# Altium schematic symbol library ZhuhcADLib.SchLib: 16 symbols
Pins are listed as number, name and electrical type; pins without a type are passive.

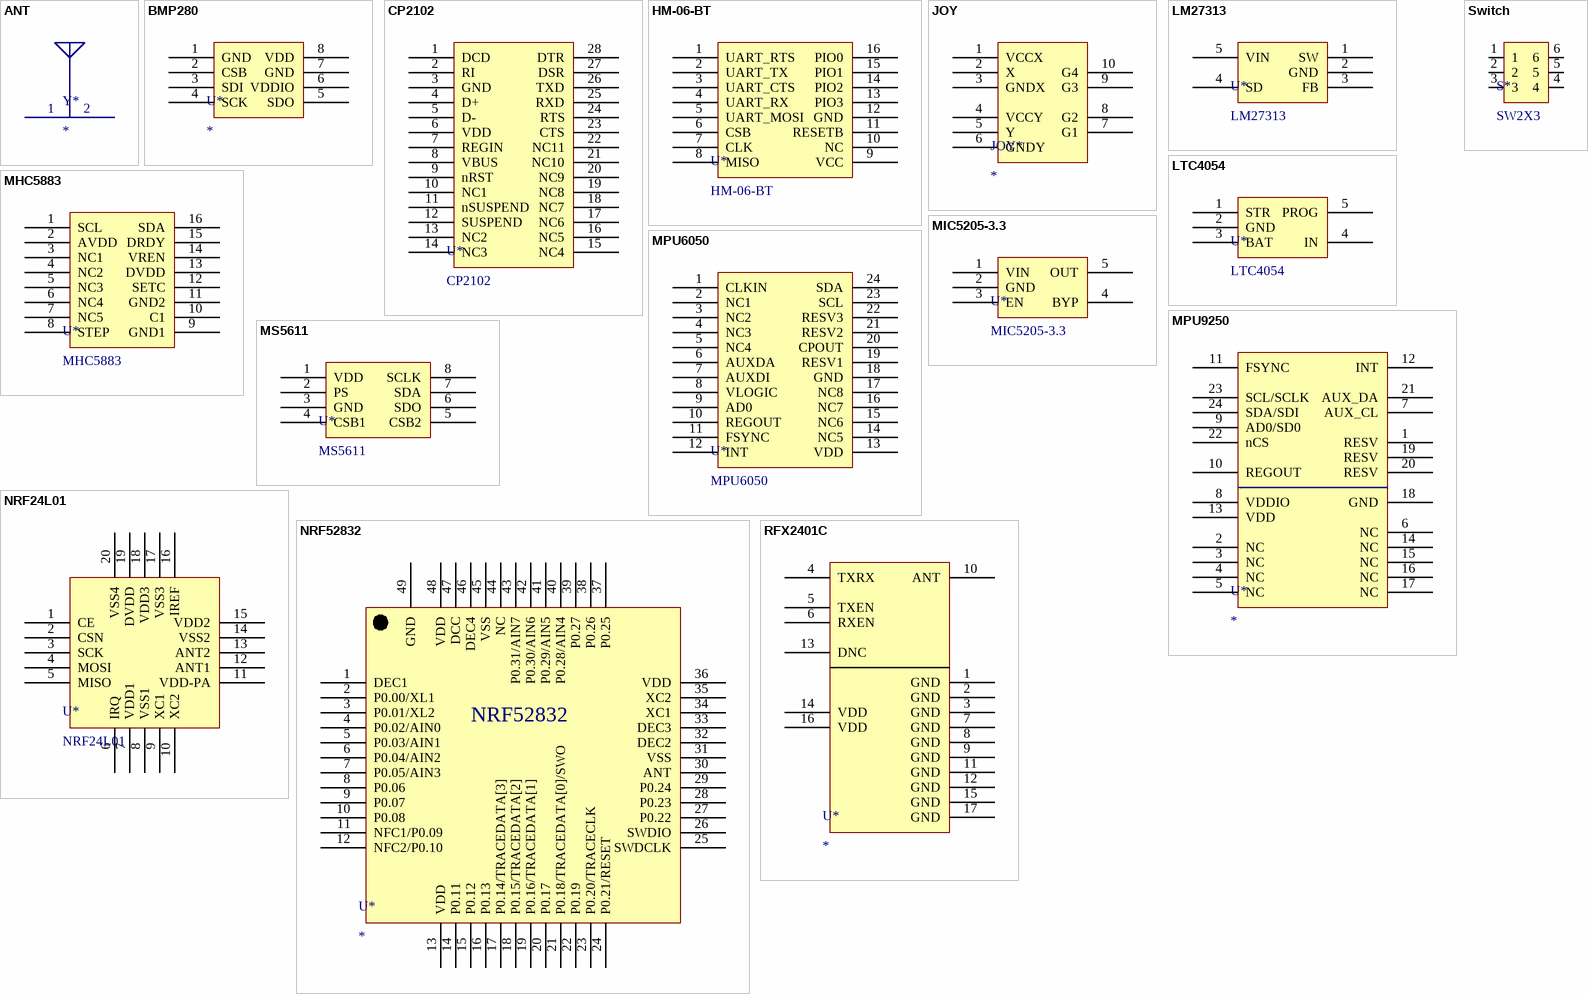
[diagram p0: symbols ANT to Switch]

## ANT
designator Y*
pins: 1, 2

## BMP280
designator U*
pins: 1 GND, 2 CSB, 3 SDI, 4 SCK, 5 SDO, 6 VDDIO, 7 GND, 8 VDD

## CP2102
designator U*
pins: 1 DCD, 2 RI, 3 GND, 4 D+, 5 D-, 6 VDD, 7 REGIN, 8 VBUS, 9 nRST, 10 NC1, 11 nSUSPEND, 12 SUSPEND, 13 NC2, 14 NC3, 15 NC4, 16 NC5, 17 NC6, 18 NC7, 19 NC8, 20 NC9, 21 NC10, 22 NC11, 23 CTS, 24 RTS, 25 RXD, 26 TXD, 27 DSR, 28 DTR

## HM-06-BT
designator U*
pins: 1 UART_RTS, 2 UART_TX, 3 UART_CTS, 4 UART_RX, 5 UART_MOSI, 6 CSB, 7 CLK, 8 MISO, 9 VCC, 10 NC, 11 RESETB, 12 GND, 13 PIO3, 14 PIO2, 15 PIO1, 16 PIO0

## JOY
designator JOY*
pins: 1 VCCX, 2 X, 3 GNDX, 4 VCCY, 5 Y, 6 GNDY, 7 G1, 8 G2, 9 G3, 10 G4

## LM27313
designator U*
pins: 1 SW, 2 GND, 3 FB, 4 SD, 5 VIN

## LTC4054
designator U*
pins: 1 STR, 2 GND, 3 BAT, 4 IN, 5 PROG

## MHC5883
designator U*
pins: 1 SCL, 2 AVDD, 3 NC1, 4 NC2, 5 NC3, 6 NC4, 7 NC5, 8 STEP, 9 GND1, 10 C1, 11 GND2, 12 SETC, 13 DVDD, 14 VREN, 15 DRDY, 16 SDA

## MIC5205-3.3
designator U*
pins: 1 VIN, 2 GND, 3 EN, 4 BYP, 5 OUT

## MPU6050
designator U*
pins: 1 CLKIN, 2 NC1, 3 NC2, 4 NC3, 5 NC4, 6 AUXDA, 7 AUXDI, 8 VLOGIC, 9 AD0, 10 REGOUT, 11 FSYNC, 12 INT, 13 VDD, 14 NC5, 15 NC6, 16 NC7, 17 NC8, 18 GND, 19 RESV1, 20 CPOUT, 21 RESV2, 22 RESV3, 23 SCL, 24 SDA

## MPU9250
designator U*
pins: 1 RESV, 2 NC, 3 NC, 4 NC, 5 NC, 6 NC, 7 AUX_CL, 8 VDDIO, 9 AD0/SD0, 10 REGOUT, 11 FSYNC, 12 INT, 13 VDD, 14 NC, 15 NC, 16 NC, 17 NC, 18 GND, 19 RESV, 20 RESV, 21 AUX_DA, 22 nCS, 23 SCL/SCLK, 24 SDA/SDI

## MS5611
designator U*
pins: 1 VDD, 2 PS, 3 GND, 4 CSB1, 5 CSB2, 6 SDO, 7 SDA, 8 SCLK

## NRF24L01
designator U*
pins: 1 CE, 2 CSN, 3 SCK, 4 MOSI, 5 MISO, 6 IRQ, 7 VDD1, 8 VSS1, 9 XC1, 10 XC2, 11 VDD-PA, 12 ANT1, 13 ANT2, 14 VSS2, 15 VDD2, 16 IREF, 17 VSS3, 18 VDD3, 19 DVDD, 20 VSS4

## NRF52832
designator U*
pins: 1 DEC1, 2 P0.00/XL1, 3 P0.01/XL2, 4 P0.02/AIN0, 5 P0.03/AIN1, 6 P0.04/AIN2, 7 P0.05/AIN3, 8 P0.06, 9 P0.07, 10 P0.08, 11 NFC1/P0.09, 12 NFC2/P0.10, 13 VDD, 14 P0.11, 15 P0.12, 16 P0.13, 17 P0.14/TRACEDATA[3], 18 P0.15/TRACEDATA[2], 19 P0.16/TRACEDATA[1], 20 P0.17, 21 P0.18/TRACEDATA[0]/SWO, 22 P0.19, 23 P0.20/TRACECLK, 24 P0.21/RESET, 25 SWDCLK, 26 SWDIO, 27 P0.22, 28 P0.23, 29 P0.24, 30 ANT, 31 VSS, 32 DEC2, 33 DEC3, 34 XC1, 35 XC2, 36 VDD, 37 P0.25, 38 P0.26, 39 P0.27, 40 P0.28/AIN4, 41 P0.29/AIN5, 42 P0.30/AIN6, 43 P0.31/AIN7, 44 NC, 45 VSS, 46 DEC4, 47 DCC, 48 VDD, 49 GND

## RFX2401C
designator U*
pins: 1 GND, 2 GND, 3 GND, 4 TXRX, 5 TXEN, 6 RXEN, 7 GND, 8 GND, 9 GND, 10 ANT, 11 GND, 12 GND, 13 DNC, 14 VDD, 15 GND, 16 VDD, 17 GND

## Switch
designator S*, comment SW2X3
pins: 1, 2, 3, 4, 5, 6